# Altium footprint library PcbLib.PcbLib: 145 footprints (part 7 of 10)
Each footprint in its own frame and in the unit in brackets; x right, y up, seen from the top. Pads: shape width x height; smd on the part's side, far side on the other; paste and mask are expansions set on the pad; w line width, h text height; cw(c..) or ccw(c..) is an arc to the next point about the centre after c.
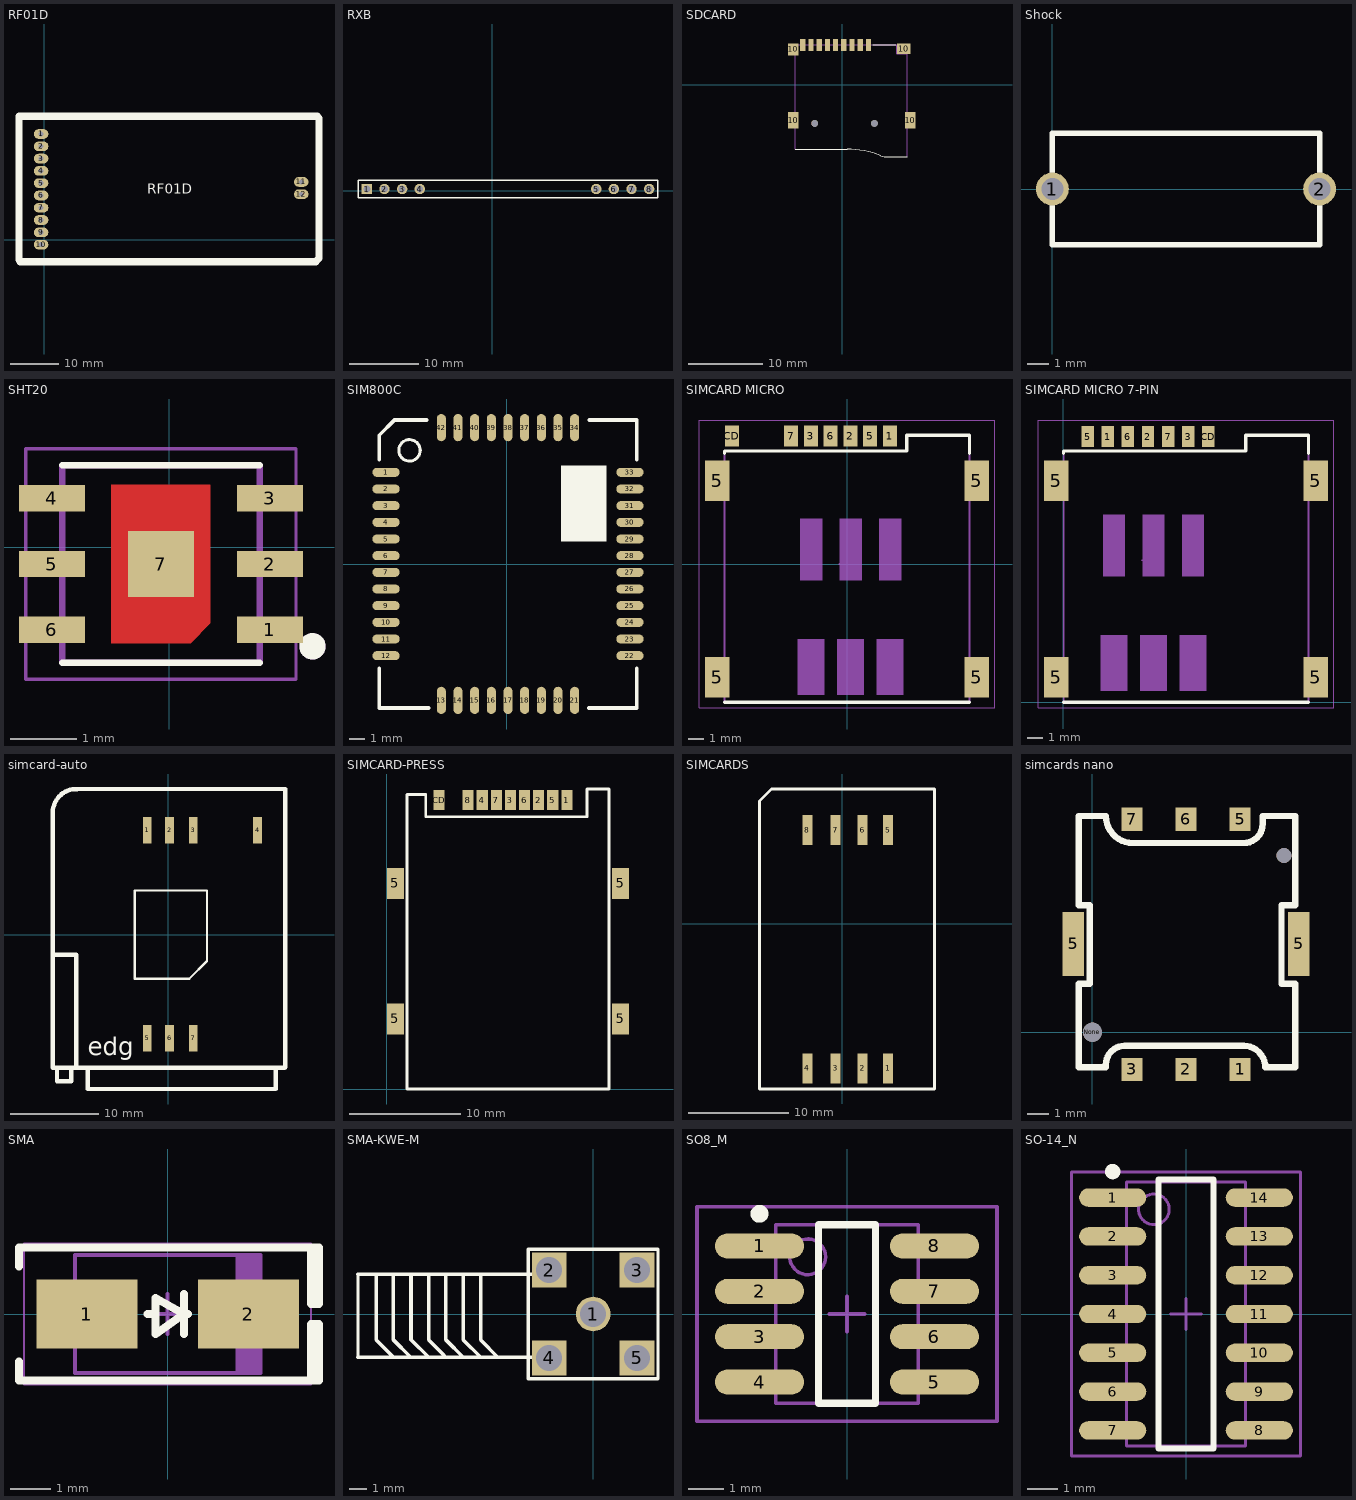
[diagram p6: the footprints below, top view; thin cyan lines are the x and y axes]

## RF01D [mm]
pads (12):
  oval 3x2 hole 1: 1(-0.635,21.844) 2(-0.635,19.304) 3(-0.635,16.764) 4(-0.635,14.224) 5(-0.635,11.684) 6(-0.635,9.144) 7(-0.635,6.604) 8(-0.635,4.064) 9(-0.635,1.524) 10(-0.635,-1.016) 11(53.086,11.938) 12(53.086,9.398)
Top Overlay:
  lines w1.5: -4.953,-4.572 56.134,-4.572 ; -4.953,-4.445 -5.207,-4.191 -5.207,25.527 56.388,25.527 56.769,25.146 56.769,-3.81 56.134,-4.445
  text "RF01D" at 21.336,9.525 h2

## RXB [mm]
pads (8):
  rect 1.5x1.5 hole 1: 1(-18.059,0.229)
  round 1.5 hole 1: 2(-15.519,0.229) 3(-12.979,0.229) 4(-10.439,0.229) 5(14.961,0.229) 6(17.501,0.229) 7(20.041,0.229) 8(22.581,0.229)
Top Overlay:
  lines w0.2: -19.329,-1.041 23.851,-1.041 23.851,1.499 -19.329,1.499 -19.329,-1.041

## SDCARD [mm]
pads (15):
  rect 0.7x1.6 smd: 1(3.52,5.33) 2(2.42,5.33) 3(1.32,5.33) 4(0.22,5.33) 5(-0.88,5.33) 6(-1.98,5.33) 7(-3.08,5.33) 8(-4.18,5.33) 9(-5.28,5.33)
  rect 1.4x2.2 smd: 10(-6.58,-4.77) 10(9.12,-4.77)
  rect 1.4x1.6 smd: 10(-6.58,4.73)
  rect 1.8x1.4 smd: 10(8.22,4.83)
  round 0.9 hole 0.9 unplated: None(-3.68,-5.17) None(4.32,-5.17)
Top Overlay:
  lines w0.127: -6.287,-8.64 0.647,-8.64 cw(c0.647,-21.34) 5.198,-9.484 ; 4.07,5.33 7.17,5.33 ; 5.161,-9.469 ccw(c6.168,-6.847) 6.168,-9.656 8.699,-9.656
Mechanical 4:
  lines w0.127: -6.287,5.33 7.302,5.33 ; -6.287,5.33 -6.287,-8.64 -6.287,5.33 ; -6.287,5.33 7.302,5.33 ; 7.302,4.187 8.699,4.187 ; 7.302,4.187 7.302,5.33 ; 7.302,4.187 8.699,4.187 ; 7.302,4.187 7.302,5.33 ; 8.699,4.187 8.699,-9.656 8.699,4.187

## Shock [mm]
pads (2):
  round 1.5 hole 1: 1(0,0) 2(12.192,0)
Top Overlay:
  lines w0.254: 0,-2.54 0,0.635 0,2.54 12.192,2.54 12.192,-2.54 0,-2.54
3D body: height 0.25, standoff 0, extent 0.016,-2.54 12.192,2.651

## SHT20 [mm]
height 1.2
pads (7):
  rect 1x0.4 smd paste-1: 1(1.527,-1.254) 2(1.527,-0.254) 3(1.527,0.746) 4(-1.781,0.746) 5(-1.781,-0.254) 6(-1.781,-1.254)
  rect 1x1 smd paste-1 mask+0: 7(-0.127,-0.254)
Top Layer:
  region: -0.877,0.946 0.623,0.946 0.623,-1.154 0.323,-1.454 -0.877,-1.454
Top Overlay:
  circle w0.2: c2.173,-1.504 r0.1
  lines w0.1: -1.627,-1.754 1.373,-1.754 ; -1.627,1.246 1.373,1.246
Top Paste:
  region: -0.827,0.896 0.573,0.896 0.573,-1.129 0.298,-1.404 -0.827,-1.404
  region: -1.827,0.946 -1.327,0.946 -1.327,0.546 -1.827,0.546
  region: -1.827,-0.054 -1.327,-0.054 -1.327,-0.454 -1.827,-0.454
  region: -1.827,-1.054 -1.327,-1.054 -1.327,-1.454 -1.827,-1.454
  region: 1.073,0.946 1.573,0.946 1.573,0.546 1.073,0.546
  region: 1.073,-0.054 1.573,-0.054 1.573,-0.454 1.073,-0.454
  region: 1.073,-1.054 1.573,-1.054 1.573,-1.454 1.073,-1.454
Top Solder:
  region: -0.887,-1.553 -0.893,-1.553 -0.898,-1.552 -0.903,-1.551 -0.908,-1.549 -0.913,-1.547 -0.918,-1.545 -0.922,-1.543 -0.927,-1.541 -0.931,-1.538 -0.936,-1.535 -0.94,-1.532 -0.944,-1.528 -0.948,-1.525 -0.951,-1.521 -0.955,-1.517 -0.958,-1.513 -0.961,-1.508 -0.964,-1.504 -0.966,-1.499 -0.968,-1.495 -0.97,-1.49 -0.972,-1.485 -0.974,-1.48 -0.975,-1.475 -0.976,-1.47 -0.976,-1.464 -0.977,-1.459 -0.977,-1.454 -0.977,0.946 -0.977,0.951 -0.976,0.956 -0.976,0.962 -0.975,0.967 -0.974,0.972 -0.972,0.977 -0.97,0.982 -0.968,0.987 -0.966,0.991 -0.964,0.996 -0.961,1 -0.958,1.005 -0.955,1.009 -0.951,1.013 -0.948,1.017 -0.944,1.02 -0.94,1.024 -0.936,1.027 -0.931,1.03 -0.927,1.033 -0.922,1.035 -0.918,1.037 -0.913,1.039 -0.908,1.041 -0.903,1.043 -0.898,1.044 -0.893,1.045 -0.887,1.045 -0.882,1.046 0.628,1.046 0.633,1.045 0.639,1.045 0.644,1.044 0.649,1.043 0.654,1.041 0.659,1.039 0.664,1.037 0.668,1.035 0.673,1.033 0.677,1.03 0.682,1.027 0.686,1.024 0.69,1.02 0.694,1.017 0.697,1.013 0.701,1.009 0.704,1.005 0.707,1 0.71,0.996 0.712,0.991 0.714,0.987 0.716,0.982 0.718,0.977 0.72,0.972 0.721,0.967 0.722,0.962 0.722,0.956 0.723,0.951 0.723,0.946 0.723,-1.154 0.723,-1.225 0.394,-1.554 -0.882,-1.554
Mechanical 13:
  circle w0.2: c2.173,-1.504 r0.1
  lines w0.1: -1.627,-1.754 1.373,-1.754 1.373,1.246 -1.627,1.246 -1.627,-1.754
Mechanical 15:
  lines w0.05: -2.177,-2.004 -2.177,1.496 1.923,1.496 1.923,-2.004 -2.177,-2.004
3D body "step_temp.STEP": height 1.05, standoff 0, extent -1.651,-1.754 1.349,1.246

## SIM800C [mm]
pads (42):
  oval 1.8x0.6 smd: 1(-7.974,6.075) 2(-7.974,4.975) 3(-7.974,3.875) 4(-7.974,2.775) 5(-7.974,1.675) 6(-7.974,0.575) 7(-7.974,-0.525) 8(-7.974,-1.625) 9(-7.974,-2.725) 10(-7.974,-3.825) 11(-7.974,-4.925) 12(-7.974,-6.025) 22(8.126,-6.025) 23(8.126,-4.925) 24(8.126,-3.825) 25(8.126,-2.725) 26(8.126,-1.625) 27(8.126,-0.525) 28(8.126,0.575) 29(8.126,1.675) 30(8.126,2.775) 31(8.126,3.875) 32(8.126,4.975) 33(8.126,6.075)
  oval 0.6x1.8 smd: 13(-4.324,-8.975) 14(-3.224,-8.975) 15(-2.124,-8.975) 16(-1.024,-8.975) 17(0.076,-8.975) 18(1.176,-8.975) 19(2.276,-8.975) 20(3.376,-8.975) 21(4.476,-8.975) 34(4.476,9.025) 35(3.376,9.025) 36(2.276,9.025) 37(1.176,9.025) 38(0.076,9.025) 39(-1.024,9.025) 40(-2.124,9.025) 41(-3.224,9.025) 42(-4.324,9.025)
Top Overlay:
  circle w0.203: c-6.424,7.525 r0.707
  rectangle: 3.573,1.525 6.573,6.525
  lines w0.25: -8.424,-6.85 -8.424,-9.475 -5.174,-9.475 ; -8.424,6.9 -8.424,8.525 -7.424,9.525 -5.299,9.525 ; 5.401,-9.475 5.576,-9.475 8.576,-9.475 8.576,-6.85 ; 5.451,9.525 8.576,9.525 8.576,6.9
Top Solder:
  lines w0.152: -0.424,0.025 0.576,0.025 ; 0.076,-0.475 0.076,0.525
3D body "SIM800C.STEP": height 1.9, standoff 0, extent -7.774,-8.774 7.926,8.826

## SIMCARD MICRO [mm]
pads (11):
  rect 0.9x1.35 smd: 1(2.755,8.215) 2(0.215,8.215) 3(-2.325,8.215) 5(1.485,8.215) 6(-1.055,8.215) 7(-3.595,8.215) CD(-7.405,8.215)
  rect 1.56x2.61 smd: 5(-8.34,-7.29) 5(-8.34,5.34) 5(8.34,-7.29) 5(8.34,5.34)
Top Overlay:
  lines w0.2: -7.875,-8.89 7.875,-8.89 ; -7.875,7.1 -7.875,7.27 3.84,7.27 3.84,8.28 7.875,8.28 7.875,7.1
Mechanical 13:
  lines w0.1: -7.875,-8.89 7.875,-8.89 7.875,8.28 3.84,8.28 3.84,7.27 -7.875,7.27 -7.875,-8.89
Mechanical 15:
  region: -1.605,-1.03 -3.005,-1.03 -3.005,2.91 -1.605,2.91
  region: -1.455,-8.41 -3.155,-8.41 -3.155,-4.83 -1.455,-4.83
  region: 1.085,-8.41 -0.615,-8.41 -0.615,-4.83 1.085,-4.83
  region: 3.475,-1.03 2.075,-1.03 2.075,2.91 3.475,2.91
  region: 3.625,-8.41 1.925,-8.41 1.925,-4.83 3.625,-4.83
  region: 0.935,-1.03 -0.465,-1.03 -0.465,2.91 0.935,2.91
  lines w0.05: -9.5,-9.25 9.5,-9.25 9.5,9.25 -9.5,9.25 -9.5,-9.25
  lines w0.1: -0.5,0 0.5,0 ; 0,-0.5 0,0.5
3D body "SIM7100-6-1-15-00-A--3DModel-STEP-56544.STEP": height 1.5, standoff -0.03, extent -8.368,-9.173 8.382,8.157

## SIMCARD MICRO 7-PIN [mm]
pads (11):
  rect 0.8x1.35 smd: 1(2.846,17.086) 2(5.435,17.086) 3(8.024,17.086) 5(1.552,17.086) 6(4.14,17.086) 7(6.729,17.086) CD(9.318,17.086)
  rect 1.56x2.61 smd: 5(-0.462,1.598) 5(-0.462,14.228) 5(16.218,1.598) 5(16.218,14.228)
Top Overlay:
  lines w0.2: 0.003,-0.002 15.753,-0.002 ; 0.003,15.988 0.003,16.158 11.718,16.158 11.718,17.168 15.753,17.168 15.753,15.988
Mechanical 13:
  lines w0.1: 0.003,-0.002 0.003,16.158 11.718,16.158 11.718,17.168 15.753,17.168 15.753,-0.002 0.003,-0.002
Mechanical 15:
  region: 6.482,8.113 5.082,8.113 5.082,12.053 6.482,12.053
  region: 9.172,0.733 7.472,0.733 7.472,4.313 9.172,4.313
  region: 9.022,8.113 7.622,8.113 7.622,12.053 9.022,12.053
  region: 6.632,0.733 4.932,0.733 4.932,4.313 6.632,4.313
  region: 4.092,0.733 2.392,0.733 2.392,4.313 4.092,4.313
  region: 3.942,8.113 2.542,8.113 2.542,12.053 3.942,12.053
  lines w0.05: -1.622,-0.362 -1.622,18.138 17.378,18.138 17.378,-0.362 -1.622,-0.362
  lines w0.1: 5.047,9.143 6.047,9.143 ; 5.547,8.643 5.547,9.643
3D body "SIM7100-6-1-15-00-A.stp": height 1.5, standoff -0.03, extent -0.43,-0.116 16.32,17.214

## simcard-auto [mm] "simcard"
height 1.1
pads (8):
  rect 1x3 smd: 1(-2.372,11.851) 2(0.168,11.851) 3(2.835,11.851) 4(10.135,11.851) 5(-2.372,-11.771) 6(0.168,-11.771) 7(2.835,-11.771)
  rect 0x0 smd: 8(10.135,-11.771)
Top Overlay:
  lines w0.254: -3.8,5 -3.8,-5 2.4,-5 4.4,-3 4.4,5 -3.7,5
  lines w0.5: -13.081,13.819 -13.081,-15.1 13.2,-15.1 13.272,-15.028 13.272,16.5 -10.4,16.5 ; -10.4,-15 -10.4,-3.8
  lines w0.508: -13.081,13.9 cw(c-10.39,13.81) -10.3,16.5 ; -12.981,-2.3 -10.4,-2.3 -10.4,-3.8 ; -12.6,-15.1 -12.6,-16.6 -11,-16.6 -11,-15.1 ; -9.1,-15.1 -9.1,-17.5 12.2,-17.5 12.2,-15.1
  text "edg" at -9.1,-13.7 h2.03

## SIMCARD-PRESS [mm] "simcard"
height 1.1
pads (13):
  rect 1x1.8 smd: 1(16.2,26) 2(13.66,26) 3(11.12,26) 4(8.58,26) 5(14.93,26) 6(12.39,26) 7(9.85,26) 8(7.31,26) CD(4.69,26)
  rect 1.55x2.8 smd: 5(0.775,6.3) 5(0.775,18.5) 5(21.025,6.3) 5(21.025,18.5)
Top Overlay:
  lines w0.254: 1.8,0 20,0 20,27 18,27 18,24.5 3.5,24.5 3.5,26.5 1.8,26.5 1.8,0

## SIMCARDS [mm]
pads (8):
  rect 1x3 smd: 1(4.572,-14.351) 2(2.032,-14.351) 3(-0.635,-14.351) 4(-3.429,-14.351) 5(4.572,9.271) 6(2.032,9.271) 7(-0.635,9.271) 8(-3.429,9.271)
Top Overlay:
  lines w0.254: 9.144,-16.383 -8.177,-16.383 -8.177,12.143 -6.985,13.335 9.144,13.335 ; 9.164,-16.383 9.164,13.303

## simcards nano [mm]
pads (10):
  rect 1x1.1 smd: 1(6.94,-1.75) 2(4.4,-1.75) 3(1.86,-1.75) 5(6.94,10) 6(4.4,10) 7(1.86,10)
  rect 1x3 smd: 5(-0.9,4.15) 5(9.7,4.15)
  round 0.9 hole 0.9 unplated: None(0,0)
  round 0.7 hole 0.7 unplated: None(9,8.3)
Top Overlay:
  lines w0.3: -0.635,-1.651 0.635,-1.651 0.635,-1.524 cw(c1.524,-1.524) 1.524,-0.635 7.112,-0.635 cw(c7.112,-1.651) 8.128,-1.651 9.525,-1.651 9.525,2.286 8.89,2.286 8.89,5.969 9.525,5.969 9.525,10.16 8.001,10.16 8.001,9.779 cw(c7.112,9.779) 7.112,8.89 1.905,8.89 cw(c1.905,10.16) 0.635,10.16 -0.635,10.16 -0.635,5.969 -0.127,5.969 -0.127,2.286 -0.635,2.286 -0.635,0.254 -0.635,-1.651
3D body "SIM8051-6-0-14-00-A_REVD6.step": height 1.35, standoff 0, extent -0.894,-1.778 9.906,10.422

## SMA [mm] "Molded Diode, 2-Leads, Body 4.30x2.60mm, IPC Medium Density"
height 2.4
pads (2):
  rect 2.5x1.7 smd: 1(-2,0) 2(2,0)
Top Overlay:
  lines w0.2: -3.683,-1.175 -3.683,-1.651 3.75,-1.651 3.75,-0.254 3.556,-0.254 3.556,-1.651 ; -3.683,1.175 -3.683,1.651 3.75,1.651 3.75,0.254 3.556,0.254 3.556,1.651 ; -0.5,0 -0.3,0 ; 0.4,-0.5 0.4,0.5 ; 0.5,0 0.4,0 ; 0.4,0 -0.3,0.4 -0.3,-0.5 0.4,0
Mechanical 13:
  rectangle: 1.681,-1.46 2.3,1.46
  lines w0.1: -2.3,-1.46 -2.3,1.46 2.3,1.46 2.3,-1.46 -2.3,-1.46
Mechanical 15:
  lines w0.05: -3.556,-1.75 -3.556,1.75 3.556,1.75 3.556,-1.75 -3.556,-1.75
  lines w0.1: -0.5,0 0.5,0 ; 0,-0.5 0,0.5
3D body "SMA.STEP": height 2.4, standoff 0, extent -2.6,-1.375 2.6,1.375

## SMA-KWE-M [mm] "Connector; RF Coaxial, MCX, Thru-Hole; 5 Position; Right-Angle"
height 5.85
pads (5):
  round 2 hole 1.5: 1(0,0)
  rect 2x2 hole 1.5: 2(-2.54,2.54) 3(2.54,2.54) 4(-2.54,-2.54) 5(2.54,-2.54)
Top Overlay:
  lines w0.2: -13.582,-2.5 -13.582,2.3 ; -11.55,2.3 -3.4,2.3 ; -11.532,-2.5 -3.4,-2.5 ; -3.75,-3.75 3.75,-3.75 3.75,3.75 -3.75,3.75 -3.75,-3.75
  lines w0.203: -13.582,-2.5 -11.343,-2.5 ; -13.582,2.3 -11.317,2.3 ; -12.532,2.3 -12.532,-1.5 -11.532,-2.5 ; -11.532,2.3 -11.532,-1.5 -10.555,-2.477 ; -10.532,-1.5 -10.532,2.3 ; -10.5,2.3 -10.5,-1.5 -9.5,-2.5 ; -9.5,2.3 -9.5,-1.5 -8.6,-2.4 ; -8.5,2.3 -8.5,-1.5 -7.5,-2.5 ; -7.5,2.3 -7.5,-1.5 -6.5,-2.5 ; -6.5,2.3 -6.5,-1.5 -5.5,-2.5
3D body "619540-1.stp": height 3.2, standoff -10.3, extent -15.215,-3.352 3.785,3.048

## SO8_M [mm]
pads (8):
  oval 2.5x0.7 smd: 1(-2.45,1.905) 2(-2.45,0.635) 3(-2.45,-0.635) 4(-2.45,-1.905) 5(2.45,-1.905) 6(2.45,-0.635) 7(2.45,0.635) 8(2.45,1.905)
Top Overlay:
  circle w0.25: c-2.45,2.805 r0.125
  lines w0.2: -0.8,-2.5 -0.8,2.5 0.8,2.5 0.8,-2.5 -0.8,-2.5
Mechanical 13:
  circle w0.1: c-1.1,1.6 r0.5
  lines w0.1: -2,-2.5 -2,2.5 2,2.5 2,-2.5 -2,-2.5
Mechanical 15:
  lines w0.1: -0.5,0 0.5,0 ; 0,-0.5 0,0.5 ; -4.2,-3 -4.2,3 4.2,3 4.2,-3 -4.2,-3
3D body: height 1.75, standoff 0, extent -2,-2.5 2,2.5

## SO-14_N [mm] "14-Pin Small Outline Integrated Circuit 1.27 mm Pitch, IPC Medium Density"
height 1.75
pads (14):
  oval 2.2x0.6 smd: 1(-2.4,3.81) 2(-2.4,2.54) 3(-2.4,1.27) 4(-2.4,0) 5(-2.4,-1.27) 6(-2.4,-2.54) 7(-2.4,-3.81) 8(2.4,-3.81) 9(2.4,-2.54) 10(2.4,-1.27) 11(2.4,0) 12(2.4,1.27) 13(2.4,2.54) 14(2.4,3.81)
Top Overlay:
  circle w0.25: c-2.4,4.66 r0.125
  lines w0.2: -0.9,-4.4 0.9,-4.4 0.9,4.4 -0.9,4.4 -0.9,-4.4
Mechanical 13:
  circle w0.1: c-1.05,3.425 r0.5
  lines w0.1: -1.95,-4.325 1.95,-4.325 1.95,4.325 -1.95,4.325 -1.95,-4.325
Mechanical 15:
  lines w0.1: -0.5,0 0.5,0 ; 0,-0.5 0,0.5 ; -3.75,-4.65 3.75,-4.65 3.75,4.65 -3.75,4.65 -3.75,-4.65
3D body: height 1.75, standoff 0, extent -1.95,-4.325 1.95,4.325